# Altium integrated library AS5600-block (2).IntLib: 15 symbols
Pins are listed as number, name and electrical type; pins without a type are passive.

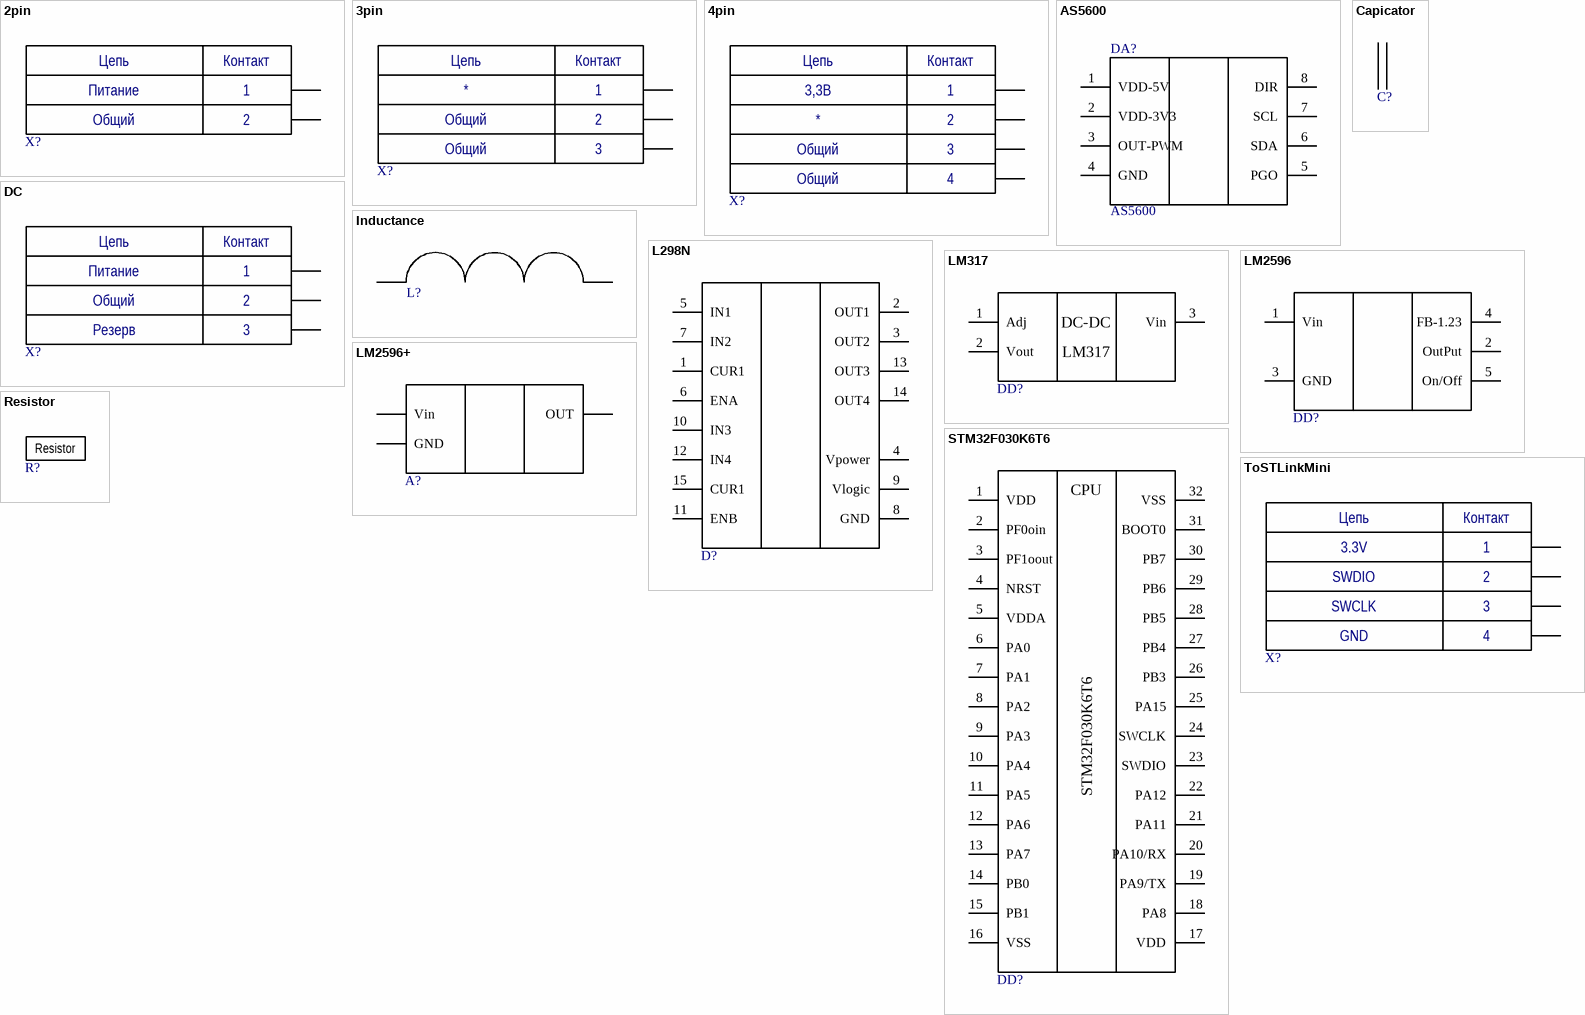
[diagram p0: symbols 2pin to ToSTLinkMini]

## 2pin
designator X?  (value not drawn)
LineName1: Питание; LineName2: Общий
footprint 2pin5mmugol
footprint 2PIN
footprint 2PinPolar
footprint 2pinVint
footprint 2PowerBolt
footprint 2pin, 2.54mm, pruz
footprint 2pin5mmVintKlemm
footprint Torec-Power
footprint 2PowerM2
footprint 2-MGHW
footprint ConsConn-3,5mm-2pin
footprint ConsConn-3,5mm-2pin-Debug
footprint HU2
pins: 1, 2 -Vout
text: Цепь; Контакт

## 3pin
designator X?  (value not drawn)
LineName2: Общий; LineName1: *; LineName3: Общий
footprint 3pin
footprint 3pinVint
footprint 3pin, 2.54mm, pruz
footprint 3pin 2mm
footprint 3 pin KF350 & P2.54
footprint 3 pin KF350
footprint 3-MGHW
footprint 3x8MaketPow
footprint HU3
footprint Torec-1,27mm-3pin
footprint Torec-1-1,27mm-3pin
pins: 1, 2 -Vout, 3 -Vout
text: Цепь; Контакт

## 4pin
designator X?  (value not drawn)
LineName1: 3,3В; LineName3: Общий; LineName2: *; LineName4: Общий
footprint 4pin,5mm,pruz
footprint 4pin
footprint 4pin, 2.54mm, pruz
footprint 4pin 2mm
footprint Torec-1,27mm-4pin
footprint MicroFit 3.0 2*2
footprint HU4
footprint Torec-1mm-4pin
pins: 1, 2 -Vout, 3 -Vout, 4 -Vout
text: Цепь; Контакт

## AS5600
designator DA?
Reference: https://aliexpress.ru/item/4001190146547.html?spm=a2g0o.search0302.0.0.391f12cf68ntH5&algo_pvid=4adb70b5-0f0b-41d6-8c9b-7ba1863a7116&algo_expid=4adb70b5-0f0b-41d6-8c9b-7ba1863a7116-55&btsid=0b8b035916096811941256657eb370&ws_ab_test=searchweb0_0,searchweb201602_,searchweb201603_&sku_id=10000015233570585
footprint SOIC8 (SOIC, 8-Leads, Body 4,90x3,90mm, Pitch 1,27mm, IPC Medium Density)
pins: 1 VDD-5V, 2 VDD-3V3, 3 OUT-PWM, 4 GND, 5 PGO, 6 SDA, 7 SCL, 8 DIR

## Capicator
designator C?, comment Cp  (value not drawn)
Value: *
footprint 0603 (Chip Resistor, 2-Leads, Body 1,60x0,85mm, IPC Medium Density)
footprint 1210 (Chip Resistor, 2-Leads, Body 3,10x2,60mm, IPC Medium Density)
footprint 1812
footprint 2220
footprint 0805 (Chip Resistor, 2-Leads, Body 2,10x1,30mm, IPC Medium Density)
footprint 0402
footprint 0402-1210
footprint DiscCapicatorHorisontal
footprint DiscCapicatorVertical
footprint MBM 12x30
footprint CapicatorYellow_13x12x6_P:10mm
footprint 0201 (Chip Capacitor, 2-Leads, Body 0,60x0,30mm, IPC Medium Density)
footprint 0402-0805
footprint C-green 10.5x16x6.5, P:7мм
footprint 1206
footprint C-green 7x12x4, P:5мм
pins: 1 c1, 2 c2

## DC
designator X?  (value not drawn)
PowerName: Питание; GroundName: Общий; ReservName: Резерв
footprint DC_6mm
footprint DC_6mm-for-CNC
footprint DC 3,5*1,3
pins: 1, 2 -Vout, 3 -Vout
text: Цепь; Контакт

## Inductance
designator L?  (value not drawn)
Inductance: uH
footprint SCDS103
footprint SCDS103-for-CNC
pins: 1 (power), 2 (power)

## L298N
designator D?  (value not drawn)
footprint MiniWatt15
pins: 1 CUR1, 2 OUT1, 3 OUT2, 4 Vpower, 5 IN1, 6 ENA, 7 IN2, 8 GND, 9 Vlogic, 10 IN3, 11 ENB, 12 IN4, 13 OUT3, 14 OUT4, 15 CUR1

## LM317
designator DD?  (value not drawn)
footprint TO220RadVert
footprint TO92
footprint DPAK (D-PAK, 3-Pads, Body 6,35x6,86mm (max), IPC Medium Density); pin to pad 1>2 2>3 3>1
pins: 1 Adj, 2 Vout, 3 Vin
text: DC-DC

## LM2596
designator DD?  (value not drawn)
Vout: 1.23*(1+R2/R1); R1: 1K; R2: R1*(Vout/1.23 - 1); Vout: *
footprint D2PAK-5
pins: 1 Vin, 2 OutPut, 3 GND, 4 FB-1.23, 5 On/Off

## LM2596+
designator A?  (value not drawn)
footprint LM2596+
footprint LM2596CompactMadule
footprint LM2596+CNC
pins: 1 Vin, 2 PreOut hidden to LM2596-KeyOut, 3 GND, 4 FB-1.23 hidden to LM2596-FB1.23, 6 Led- hidden to LM2596-LED-, 7 OUT

## Resistor
designator R?  (value not drawn)
TU: ШКАБ.434110.002ТУ; Reference: *
footprint 0603 (Chip Resistor, 2-Leads, Body 1,60x0,85mm, IPC Medium Density)
footprint 1210 (Chip Resistor, 2-Leads, Body 3,10x2,60mm, IPC Medium Density)
footprint 2010 (Chip Resistor, 2-Leads, Body 5,00x2,50mm, IPC Medium Density)
footprint 2512 (Chip Resistor, 2-Leads, Body 6,35x3,20mm, IPC Medium Density)
footprint 2PIN
footprint 0805 (Chip Resistor, 2-Leads, Body 2,10x1,30mm, IPC Medium Density)
footprint 0402
footprint ResPin
footprint 0402-1210
footprint Res-5W
footprint 0402-0805
footprint Res_1W_Vert
footprint 0201 (Chip Capacitor, 2-Leads, Body 0,60x0,30mm, IPC Medium Density)
footprint 1206
footprint 0201 shift
footprint 2PowerM2
footprint 0402 big
pins: 1 R1, 2 R2

## STM32F030K6T6
designator DD?  (value not drawn)
footprint QFP32(7x7) (QFP, 32-Leads, Body 7,00x7,00mm, Pitch 0,80mm, IPC Medium Density)
footprint STM32F030K6T6+
footprint STM32F030K6+Not_resettable
pins: 1 VDD, 2 PF0oin, 3 PF1oout, 4 NRST, 5 VDDA, 6 PA0, 7 PA1, 8 PA2, 9 PA3, 10 PA4, 11 PA5, 12 PA6, 13 PA7, 14 PB0, 15 PB1, 16 VSS, 17 VDD, 18 PA8, 19 PA9/TX, 20 PA10/RX, 21 PA11, 22 PA12, 23 SWDIO, 24 SWCLK, 25 PA15, 26 PB3, 27 PB4, 28 PB5, 29 PB6, 30 PB7, 31 BOOT0, 32 VSS
text: CPU

## ToSTLinkMini
designator X?  (value not drawn)
footprint 4pin
footprint ToSTLink
pins: 1, 2 -Vout, 3 -Vout, 4 -Vout
text: Цепь; Контакт; 3.3V; SWDIO; SWCLK; GND


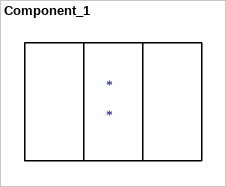
[diagram p1: symbol Component_1]

## Component_1
designator *